# EAGLE library part TDA7429S (library ATK_lib)
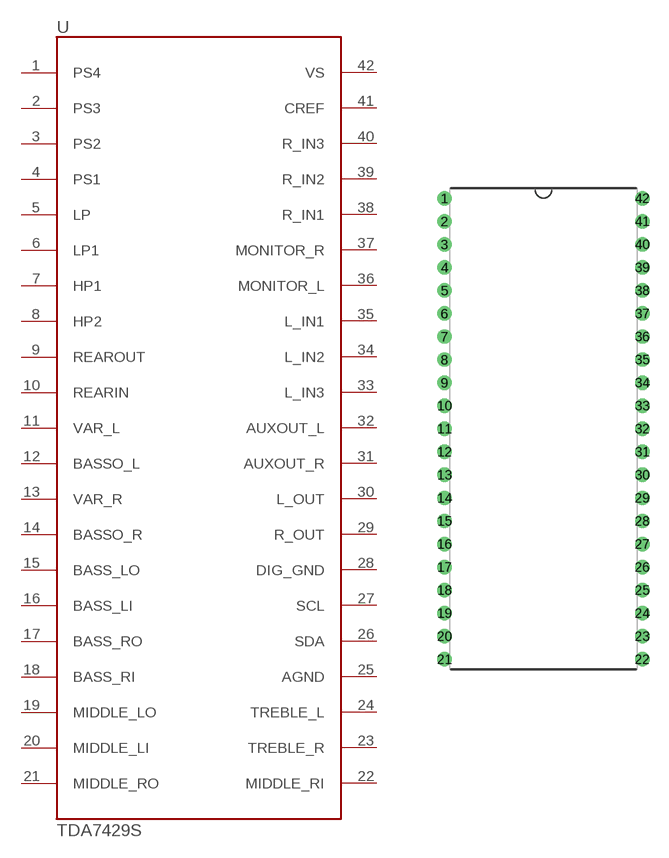
[diagram p0: symbol with the pads of SDIP42; footprint SDIP42]

Designator prefix -

## TDA7429STDA7429S  [SDIP42]
1  PS4
2  PS3
3  PS2
4  PS1
5  LP
6  LP1
7  HP1
8  HP2
9  REAROUT
10  REARIN
11  VAR_L
12  BASSO_L
13  VAR_R
14  BASSO_R
15  BASS_LO
16  BASS_LI
17  BASS_RO
18  BASS_RI
19  MIDDLE_LO
20  MIDDLE_LI
21  MIDDLE_RO
22  MIDDLE_RI
23  TREBLE_R
24  TREBLE_L
25  AGND
26  SDA
27  SCL
28  DIG_GND
29  R_OUT
30  L_OUT
31  AUXOUT_R
32  AUXOUT_L
33  L_IN3
34  L_IN2
35  L_IN1
36  MONITOR_L
37  MONITOR_R
38  R_IN1
39  R_IN2
40  R_IN3
41  CREF
42  VS

## Footprint SDIP42 (pad centres in mm)
drill 0.6 pad 1.016: 1 -7.62,17.78; 2 -7.62,16.002; 3 -7.62,14.224; 4 -7.62,12.446; 5 -7.62,10.668; 6 -7.62,8.89; 7 -7.62,7.112; 8 -7.62,5.334; 9 -7.62,3.556; 10 -7.62,1.778; 11 -7.62,0; 12 -7.62,-1.778; 13 -7.62,-3.556; 14 -7.62,-5.334; 15 -7.62,-7.112; 16 -7.62,-8.89; 17 -7.62,-10.668; 18 -7.62,-12.446; 19 -7.62,-14.224; 20 -7.62,-16.002; 21 -7.62,-17.78; 22 7.62,-17.78; 23 7.62,-16.002; 24 7.62,-14.224; 25 7.62,-12.446; 26 7.62,-10.668; 27 7.62,-8.89; 28 7.62,-7.112; 29 7.62,-5.334; 30 7.62,-3.556; 31 7.62,-1.778; 32 7.62,0; 33 7.62,1.778; 34 7.62,3.556; 35 7.62,5.334; 36 7.62,7.112; 37 7.62,8.89; 38 7.62,10.668; 39 7.62,12.446; 40 7.62,14.224; 41 7.62,16.002; 42 7.62,17.78